# Altium integrated library TI Amplifiers and Linear Special Function Amplifier.IntLib: 708 symbols (part 46 of 47)
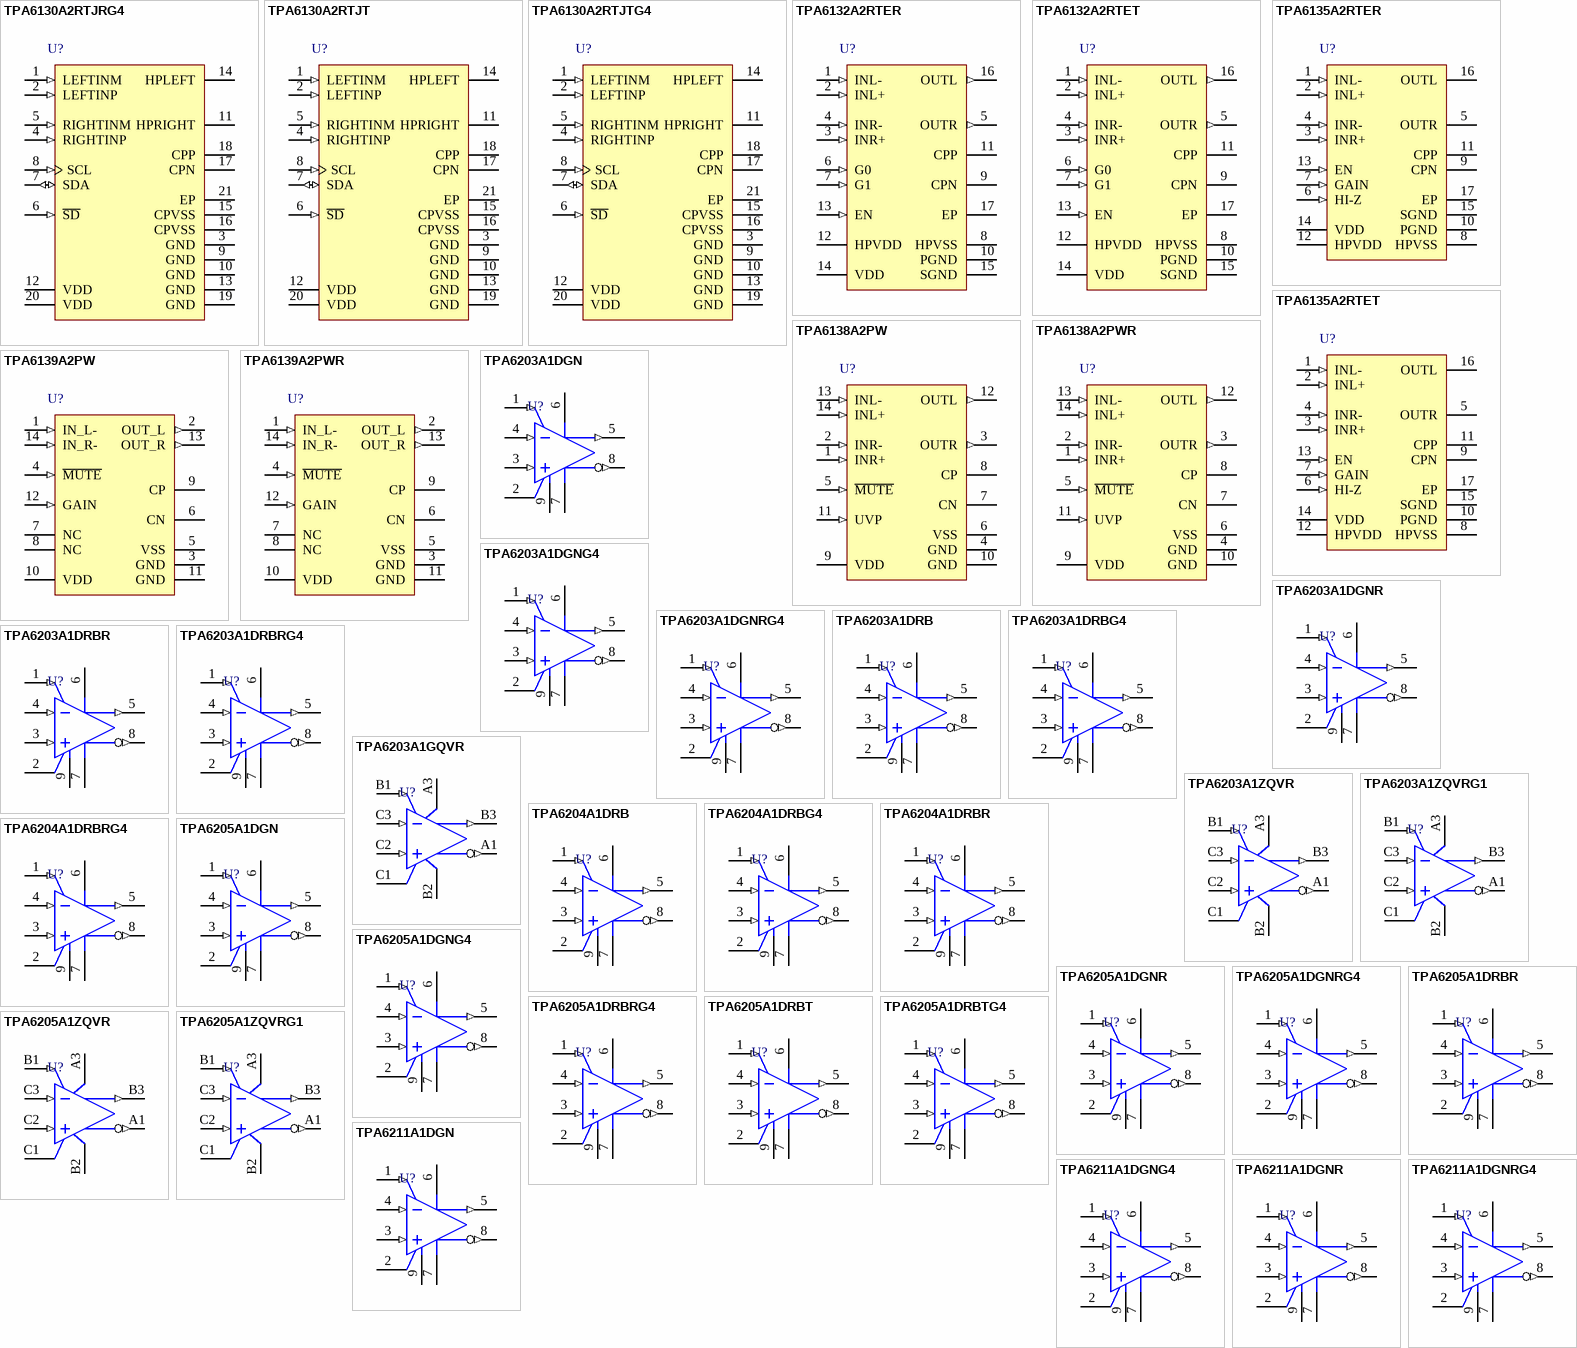
[diagram p84: symbols TPA6130A2RTJRG4 to TPA6211A1DGNRG4]

## TPA6203A1DRBG4
designator U?
1.25-W Mono, Fully Differential, Class-AB Audio Amplifier, -40 to 85 degC, 8-pin SON (DRB8), Green (RoHS & no Sb/Br); Manufacturer: Texas Instruments; PartNumber: TPA6203A1DRBG4; Output Power(W): 1.25; PSRR(dB): -90; SubFamily: Dynamic Speaker; Supply Max(Max)(Volt): 5.5; Supply Min(Min)(Volt): 2.5; DatasheetVersion: SLOS364F; PackageVersion: 4203482-2/K, 06/2012; PackageReference: DRB8-1750X1500TP; PackageDescription: 8-Pin Plastic Small Outline, Body 3 x 3 mm, Pitch 0.65 mm; Supplier 1: Digi-Key; Supplier Part Number 1: TPA6203A1DRBG4-ND; Supplier 2: Mouser; Supplier Part Number 2: 595-TPA6203A1DRBG4; Eco-Plan: Green (RoHS & no Sb/Br); Speaker Amp Type: Class-AB; Speaker Channels: Mono; Mounting Technology: Surface Mount; ComponentLink1Description: Manufacturer URL; ComponentLink1URL: http://www.ti.com/; ComponentLink2Description: Datasheet; ComponentLink2URL: http://www.ti.com/general/docs/lit/getliterature.tsp?genericPartNumber=TPA6203A1&fileType=pdf; ComponentLink3Description: Package Specification; ComponentLink3URL: http://www.ti.com/litv/pdf/mpds118h
footprint TI-DRB8-1750X1500TP_V (SON, 8-Leads, Body 3x3mm, Pitch 0.65mm, Thermal Pad 1.50 x 3.8mm)
pins: 1 ~{SHUTDOWN} (in) "Shutdown terminal (active low logic)", 2 BYPASS "Mid-supply voltage. Adding a bypass capacitor improves PSRR.", 3 IN+ (in) "Positive differential input", 4 IN- (in) "Negative differential input", 5 VO+ (out) "Positive BTL output", 6 VDD (power) "Supply voltage terminal", 7 GND (power) "High-current ground", 8 VO- (out) "Negative BTL output", 9 EP (power) "Connect to ground. Thermal pad must be soldered down in all applications to properly secure device on the PCB."

## TPA6203A1DRBR
designator U?
1.25-W Mono, Fully Differential, Class-AB Audio Amplifier, -40 to 85 degC, 8-pin SON (DRB8), Green (RoHS & no Sb/Br); Manufacturer: Texas Instruments; PartNumber: TPA6203A1DRBR; Output Power(W): 1.25; PSRR(dB): -90; SubFamily: Dynamic Speaker; Supply Max(Max)(Volt): 5.5; Supply Min(Min)(Volt): 2.5; DatasheetVersion: SLOS364F; PackageVersion: 4203482-2/K, 06/2012; PackageReference: DRB8-1750X1500TP; PackageDescription: 8-Pin Plastic Small Outline, Body 3 x 3 mm, Pitch 0.65 mm; Supplier 1: Digi-Key; Supplier Part Number 1: 296-19790-2-ND; Supplier 2: Digi-Key; Supplier Part Number 2: 296-19790-1-ND; Supplier 3: Digi-Key; Supplier Part Number 3: 296-19790-6-ND; Supplier 4: Newark; Supplier Part Number 4: 54K1507; Supplier 5: Mouser; Supplier Part Number 5: 595-TPA6203A1DRBR; Eco-Plan: Green (RoHS & no Sb/Br); Speaker Amp Type: Class-AB; Speaker Channels: Mono; Mounting Technology: Surface Mount; ComponentLink1Description: Manufacturer URL; ComponentLink1URL: http://www.ti.com/; ComponentLink2Description: Datasheet; ComponentLink2URL: http://www.ti.com/general/docs/lit/getliterature.tsp?genericPartNumber=TPA6203A1&fileType=pdf; ComponentLink3Description: Package Specification; ComponentLink3URL: http://www.ti.com/litv/pdf/mpds118h
footprint TI-DRB8-1750X1500TP_V (SON, 8-Leads, Body 3x3mm, Pitch 0.65mm, Thermal Pad 1.50 x 3.8mm)
pins: 1 ~{SHUTDOWN} (in) "Shutdown terminal (active low logic)", 2 BYPASS "Mid-supply voltage. Adding a bypass capacitor improves PSRR.", 3 IN+ (in) "Positive differential input", 4 IN- (in) "Negative differential input", 5 VO+ (out) "Positive BTL output", 6 VDD (power) "Supply voltage terminal", 7 GND (power) "High-current ground", 8 VO- (out) "Negative BTL output", 9 EP (power) "Connect to ground. Thermal pad must be soldered down in all applications to properly secure device on the PCB."

## TPA6203A1DRBRG4
designator U?
1.25-W Mono, Fully Differential, Class-AB Audio Amplifier, -40 to 85 degC, 8-pin SON (DRB8), Green (RoHS & no Sb/Br); Manufacturer: Texas Instruments; PartNumber: TPA6203A1DRBRG4; Output Power(W): 1.25; PSRR(dB): -90; SubFamily: Dynamic Speaker; Supply Max(Max)(Volt): 5.5; Supply Min(Min)(Volt): 2.5; DatasheetVersion: SLOS364F; PackageVersion: 4203482-2/K, 06/2012; PackageReference: DRB8-1750X1500TP; PackageDescription: 8-Pin Plastic Small Outline, Body 3 x 3 mm, Pitch 0.65 mm; Supplier 1: Digi-Key; Supplier Part Number 1: TPA6203A1DRBRG4-ND; Supplier 2: Mouser; Supplier Part Number 2: 595-TPA6203A1DRBRG4; Eco-Plan: Green (RoHS & no Sb/Br); Speaker Amp Type: Class-AB; Speaker Channels: Mono; Mounting Technology: Surface Mount; ComponentLink1Description: Manufacturer URL; ComponentLink1URL: http://www.ti.com/; ComponentLink2Description: Datasheet; ComponentLink2URL: http://www.ti.com/general/docs/lit/getliterature.tsp?genericPartNumber=TPA6203A1&fileType=pdf; ComponentLink3Description: Package Specification; ComponentLink3URL: http://www.ti.com/litv/pdf/mpds118h
footprint TI-DRB8-1750X1500TP_V (SON, 8-Leads, Body 3x3mm, Pitch 0.65mm, Thermal Pad 1.50 x 3.8mm)
pins: 1 ~{SHUTDOWN} (in) "Shutdown terminal (active low logic)", 2 BYPASS "Mid-supply voltage. Adding a bypass capacitor improves PSRR.", 3 IN+ (in) "Positive differential input", 4 IN- (in) "Negative differential input", 5 VO+ (out) "Positive BTL output", 6 VDD (power) "Supply voltage terminal", 7 GND (power) "High-current ground", 8 VO- (out) "Negative BTL output", 9 EP (power) "Connect to ground. Thermal pad must be soldered down in all applications to properly secure device on the PCB."

## TPA6203A1GQVR
designator U?
1.25-W Mono, Fully Differential, Class-AB Audio Amplifier, -40 to 85 degC, 8-pin BGA (GQV8); Manufacturer: Texas Instruments; PartNumber: TPA6203A1GQVR; Output Power(W): 1.25; PSRR(dB): -90; SubFamily: Dynamic Speaker; Supply Max(Max)(Volt): 5.5; Supply Min(Min)(Volt): 2.5; DatasheetVersion: SLOS364F; PackageVersion: 4201040/E, 01/2002; PackageReference: GQV8; PackageDescription: 8-Ball Plastic Ball Grid Array, Body 2 x 2 mm, Pitch 0.5 mm; Supplier 1: Digi-Key; Supplier Part Number 1: 296-12753-2-ND; Supplier 2: Digi-Key; Supplier Part Number 2: 296-12753-1-ND; Supplier 3: Mouser; Supplier Part Number 3: 595-TPA6203A1GQVR; Speaker Amp Type: Class-AB; Speaker Channels: Mono; Mounting Technology: Surface Mount; Code_JEDEC: MO-225; ComponentLink1Description: Manufacturer URL; ComponentLink1URL: http://www.ti.com/; ComponentLink2Description: Datasheet; ComponentLink2URL: http://www.ti.com/general/docs/lit/getliterature.tsp?genericPartNumber=TPA6203A1&fileType=pdf; ComponentLink3Description: Package Specification; ComponentLink3URL: http://www.ti.com/litv/pdf/mpbg144c
footprint TI-GQV8 (BGA, 8-Balls, Body 2x2mm, Pitch 0.5mm)
pins: A1 VO- (out) "Negative BTL output", A3 VDD (power) "Supply voltage terminal", B1 ~{SHUTDOWN} (in) "Shutdown terminal (active low logic)", B2 GND (power) "High-current ground", B3 VO+ (out) "Positive BTL output", C1 BYPASS "Mid-supply voltage. Adding a bypass capacitor improves PSRR.", C2 IN+ (in) "Positive differential input", C3 IN- (in) "Negative differential input"

## TPA6203A1ZQVR
designator U?
1.25-W Mono, Fully Differential, Class-AB Audio Amplifier, -40 to 85 degC, 8-pin BGA (ZQV8), Green (RoHS & no Sb/Br); Manufacturer: Texas Instruments; PartNumber: TPA6203A1ZQVR; Output Power(W): 1.25; PSRR(dB): -90; SubFamily: Dynamic Speaker; Supply Max(Max)(Volt): 5.5; Supply Min(Min)(Volt): 2.5; DatasheetVersion: SLOS364F; PackageVersion: 4205131/A, 05/2003; PackageReference: ZQV8; PackageDescription: 8-Ball Plastic Grid Array, Body 2 x 2 mm, Pitch 0.5 mm; Supplier 1: Digi-Key; Supplier Part Number 1: 296-17902-2-ND; Supplier 2: Digi-Key; Supplier Part Number 2: 296-17902-1-ND; Supplier 3: Digi-Key; Supplier Part Number 3: 296-17902-6-ND; Supplier 4: Mouser; Supplier Part Number 4: 595-TPA6203A1ZQVR; Eco-Plan: Green (RoHS & no Sb/Br); Speaker Amp Type: Class-AB; Speaker Channels: Mono; Mounting Technology: Surface Mount; Code_JEDEC: MO-225; ComponentLink1Description: Manufacturer URL; ComponentLink1URL: http://www.ti.com/; ComponentLink2Description: Datasheet; ComponentLink2URL: http://www.ti.com/general/docs/lit/getliterature.tsp?genericPartNumber=TPA6203A1&fileType=pdf; ComponentLink3Description: Package Specification; ComponentLink3URL: http://www.ti.com/litv/pdf/mpbg362
footprint TI-ZQV8 (BGA, 8-Balls, Body 2x2mm, Pitch 0.5mm)
pins: A1 VO- (out) "Negative BTL output", A3 VDD (power) "Supply voltage terminal", B1 ~{SHUTDOWN} (in) "Shutdown terminal (active low logic)", B2 GND (power) "High-current ground", B3 VO+ (out) "Positive BTL output", C1 BYPASS "Mid-supply voltage. Adding a bypass capacitor improves PSRR.", C2 IN+ (in) "Positive differential input", C3 IN- (in) "Negative differential input"

## TPA6203A1ZQVRG1
designator U?
1.25-W Mono, Fully Differential, Class-AB Audio Amplifier, -40 to 85 degC, 8-pin BGA (ZQV8), Green (RoHS & no Sb/Br); Manufacturer: Texas Instruments; PartNumber: TPA6203A1ZQVRG1; Output Power(W): 1.25; PSRR(dB): -90; SubFamily: Dynamic Speaker; Supply Max(Max)(Volt): 5.5; Supply Min(Min)(Volt): 2.5; DatasheetVersion: SLOS364F; PackageVersion: 4205131/A, 05/2003; PackageReference: ZQV8; PackageDescription: 8-Ball Plastic Grid Array, Body 2 x 2 mm, Pitch 0.5 mm; Supplier 1: Digi-Key; Supplier Part Number 1: TPA6203A1ZQVRG1-ND; Supplier 2: Mouser; Supplier Part Number 2: 595-TPA6203A1ZQVRG1; Eco-Plan: Green (RoHS & no Sb/Br); Speaker Amp Type: Class-AB; Speaker Channels: Mono; Mounting Technology: Surface Mount; Code_JEDEC: MO-225; ComponentLink1Description: Manufacturer URL; ComponentLink1URL: http://www.ti.com/; ComponentLink2Description: Datasheet; ComponentLink2URL: http://www.ti.com/general/docs/lit/getliterature.tsp?genericPartNumber=TPA6203A1&fileType=pdf; ComponentLink3Description: Package Specification; ComponentLink3URL: http://www.ti.com/litv/pdf/mpbg362
footprint TI-ZQV8 (BGA, 8-Balls, Body 2x2mm, Pitch 0.5mm)
pins: A1 VO- (out) "Negative BTL output", A3 VDD (power) "Supply voltage terminal", B1 ~{SHUTDOWN} (in) "Shutdown terminal (active low logic)", B2 GND (power) "High-current ground", B3 VO+ (out) "Positive BTL output", C1 BYPASS "Mid-supply voltage. Adding a bypass capacitor improves PSRR.", C2 IN+ (in) "Positive differential input", C3 IN- (in) "Negative differential input"

## TPA6204A1DRB
designator U?
1.7-W Mono, Fully Differential, Class-AB Audio Amplifier, -40 to 85 degC, 8-pin SON (DRB8), Green (RoHS & no Sb/Br); Manufacturer: Texas Instruments; PartNumber: TPA6204A1DRB; Output Power(W): 1.7; PSRR(dB): -80; SubFamily: Dynamic Speaker; Supply Max(Max)(Volt): 5.5; Supply Min(Min)(Volt): 2.5; DatasheetVersion: SLOS429B; PackageVersion: 4203482-2/K, 06/2012; PackageReference: DRB8-1750X1500TP; PackageDescription: 8-Pin Plastic Small Outline, Body 3 x 3 mm, Pitch 0.65 mm; Supplier 1: Digi-Key; Supplier Part Number 1: 296-34562-5-ND; Supplier 2: Newark; Supplier Part Number 2: 10J9731; Supplier 3: Mouser; Supplier Part Number 3: 595-TPA6204A1DRB; Eco-Plan: Green (RoHS & no Sb/Br); Speaker Amp Type: Class-AB; Speaker Channels: Mono; Mounting Technology: Surface Mount; ComponentLink1Description: Manufacturer URL; ComponentLink1URL: http://www.ti.com/; ComponentLink2Description: Datasheet; ComponentLink2URL: http://www.ti.com/general/docs/lit/getliterature.tsp?genericPartNumber=TPA6204A1&fileType=pdf; ComponentLink3Description: Package Specification; ComponentLink3URL: http://www.ti.com/litv/pdf/mpds118h
footprint TI-DRB8-1750X1500TP_V (SON, 8-Leads, Body 3x3mm, Pitch 0.65mm, Thermal Pad 1.50 x 3.8mm)
pins: 1 ~{SHUTDOWN} (in) "Shutdown terminal (active low logic)", 2 BYPASS "Mid-supply voltage. Adding a bypass capacitor improves PSRR.", 3 IN+ (in) "Positive differential input", 4 IN- (in) "Negative differential input", 5 VO+ (out) "Positive BTL output", 6 VDD (power) "Supply voltage terminal", 7 GND (power) "High-current ground", 8 VO- (out) "Negative BTL output", 9 EP (power) "Connect to ground. Thermal pad must be soldered down in all applications to properly secure device on the PCB."

## TPA6204A1DRBG4
designator U?
1.7-W Mono, Fully Differential, Class-AB Audio Amplifier, -40 to 85 degC, 8-pin SON (DRB8), Green (RoHS & no Sb/Br); Manufacturer: Texas Instruments; PartNumber: TPA6204A1DRBG4; Output Power(W): 1.7; PSRR(dB): -80; SubFamily: Dynamic Speaker; Supply Max(Max)(Volt): 5.5; Supply Min(Min)(Volt): 2.5; DatasheetVersion: SLOS429B; PackageVersion: 4203482-2/K, 06/2012; PackageReference: DRB8-1750X1500TP; PackageDescription: 8-Pin Plastic Small Outline, Body 3 x 3 mm, Pitch 0.65 mm; Supplier 1: Digi-Key; Supplier Part Number 1: TPA6204A1DRBG4-ND; Supplier 2: Newark; Supplier Part Number 2: 33K7498; Supplier 3: Mouser; Supplier Part Number 3: 595-TPA6204A1DRBG4; Eco-Plan: Green (RoHS & no Sb/Br); Speaker Amp Type: Class-AB; Speaker Channels: Mono; Mounting Technology: Surface Mount; ComponentLink1Description: Manufacturer URL; ComponentLink1URL: http://www.ti.com/; ComponentLink2Description: Datasheet; ComponentLink2URL: http://www.ti.com/general/docs/lit/getliterature.tsp?genericPartNumber=TPA6204A1&fileType=pdf; ComponentLink3Description: Package Specification; ComponentLink3URL: http://www.ti.com/litv/pdf/mpds118h
footprint TI-DRB8-1750X1500TP_V (SON, 8-Leads, Body 3x3mm, Pitch 0.65mm, Thermal Pad 1.50 x 3.8mm)
pins: 1 ~{SHUTDOWN} (in) "Shutdown terminal (active low logic)", 2 BYPASS "Mid-supply voltage. Adding a bypass capacitor improves PSRR.", 3 IN+ (in) "Positive differential input", 4 IN- (in) "Negative differential input", 5 VO+ (out) "Positive BTL output", 6 VDD (power) "Supply voltage terminal", 7 GND (power) "High-current ground", 8 VO- (out) "Negative BTL output", 9 EP (power) "Connect to ground. Thermal pad must be soldered down in all applications to properly secure device on the PCB."

## TPA6204A1DRBR
designator U?
1.7-W Mono, Fully Differential, Class-AB Audio Amplifier, -40 to 85 degC, 8-pin SON (DRB8), Green (RoHS & no Sb/Br); Manufacturer: Texas Instruments; PartNumber: TPA6204A1DRBR; Output Power(W): 1.7; PSRR(dB): -80; SubFamily: Dynamic Speaker; Supply Max(Max)(Volt): 5.5; Supply Min(Min)(Volt): 2.5; DatasheetVersion: SLOS429B; PackageVersion: 4203482-2/K, 06/2012; PackageReference: DRB8-1750X1500TP; PackageDescription: 8-Pin Plastic Small Outline, Body 3 x 3 mm, Pitch 0.65 mm; Supplier 1: Digi-Key; Supplier Part Number 1: 296-17059-2-ND; Supplier 2: Digi-Key; Supplier Part Number 2: 296-17059-1-ND; Supplier 3: Digi-Key; Supplier Part Number 3: 296-17059-6-ND; Supplier 4: Newark; Supplier Part Number 4: 10J9732; Supplier 5: Mouser; Supplier Part Number 5: 595-TPA6204A1DRBR; Eco-Plan: Green (RoHS & no Sb/Br); Speaker Amp Type: Class-AB; Speaker Channels: Mono; Mounting Technology: Surface Mount; ComponentLink1Description: Manufacturer URL; ComponentLink1URL: http://www.ti.com/; ComponentLink2Description: Datasheet; ComponentLink2URL: http://www.ti.com/general/docs/lit/getliterature.tsp?genericPartNumber=TPA6204A1&fileType=pdf; ComponentLink3Description: Package Specification; ComponentLink3URL: http://www.ti.com/litv/pdf/mpds118h
footprint TI-DRB8-1750X1500TP_V (SON, 8-Leads, Body 3x3mm, Pitch 0.65mm, Thermal Pad 1.50 x 3.8mm)
pins: 1 ~{SHUTDOWN} (in) "Shutdown terminal (active low logic)", 2 BYPASS "Mid-supply voltage. Adding a bypass capacitor improves PSRR.", 3 IN+ (in) "Positive differential input", 4 IN- (in) "Negative differential input", 5 VO+ (out) "Positive BTL output", 6 VDD (power) "Supply voltage terminal", 7 GND (power) "High-current ground", 8 VO- (out) "Negative BTL output", 9 EP (power) "Connect to ground. Thermal pad must be soldered down in all applications to properly secure device on the PCB."

## TPA6204A1DRBRG4
designator U?
1.7-W Mono, Fully Differential, Class-AB Audio Amplifier, -40 to 85 degC, 8-pin SON (DRB8), Green (RoHS & no Sb/Br); Manufacturer: Texas Instruments; PartNumber: TPA6204A1DRBRG4; Output Power(W): 1.7; PSRR(dB): -80; SubFamily: Dynamic Speaker; Supply Max(Max)(Volt): 5.5; Supply Min(Min)(Volt): 2.5; DatasheetVersion: SLOS429B; PackageVersion: 4203482-2/K, 06/2012; PackageReference: DRB8-1750X1500TP; PackageDescription: 8-Pin Plastic Small Outline, Body 3 x 3 mm, Pitch 0.65 mm; Supplier 1: Digi-Key; Supplier Part Number 1: TPA6204A1DRBRG4-ND; Supplier 2: Newark; Supplier Part Number 2: 24K5791; Supplier 3: Mouser; Supplier Part Number 3: 595-TPA6204A1DRBRG4; Eco-Plan: Green (RoHS & no Sb/Br); Speaker Amp Type: Class-AB; Speaker Channels: Mono; Mounting Technology: Surface Mount; ComponentLink1Description: Manufacturer URL; ComponentLink1URL: http://www.ti.com/; ComponentLink2Description: Datasheet; ComponentLink2URL: http://www.ti.com/general/docs/lit/getliterature.tsp?genericPartNumber=TPA6204A1&fileType=pdf; ComponentLink3Description: Package Specification; ComponentLink3URL: http://www.ti.com/litv/pdf/mpds118h
footprint TI-DRB8-1750X1500TP_V (SON, 8-Leads, Body 3x3mm, Pitch 0.65mm, Thermal Pad 1.50 x 3.8mm)
pins: 1 ~{SHUTDOWN} (in) "Shutdown terminal (active low logic)", 2 BYPASS "Mid-supply voltage. Adding a bypass capacitor improves PSRR.", 3 IN+ (in) "Positive differential input", 4 IN- (in) "Negative differential input", 5 VO+ (out) "Positive BTL output", 6 VDD (power) "Supply voltage terminal", 7 GND (power) "High-current ground", 8 VO- (out) "Negative BTL output", 9 EP (power) "Connect to ground. Thermal pad must be soldered down in all applications to properly secure device on the PCB."

## TPA6205A1DGN
designator U?
1.25-W Mono, Fully Differential, Class-AB Audio Amplifier with 1.8 V Compatible Shutdown Voltage, -40 to 85 degC, 8-pin SOP (DGN8), Green (RoHS & no Sb/Br); Manufacturer: Texas Instruments; PartNumber: TPA6205A1DGN; Output Power(W): 1.25; PSRR(dB): -90; SubFamily: Dynamic Speaker; Supply Max(Max)(Volt): 5.5; Supply Min(Min)(Volt): 2.5; DatasheetVersion: SLOS490B; PackageVersion: 4073271/F, 05/2011; PackageReference: DGN8-1760X1425TP; PackageDescription: 8-Pin Plastic Small Outline, Body 3 x 3 mm, Pitch 0.65 mm; Supplier 1: Digi-Key; Supplier Part Number 1: 296-34563-5-ND; Supplier 2: Farnell; Supplier Part Number 2: 1697151; Supplier 3: Newark; Supplier Part Number 3: 20M5853; Supplier 4: Mouser; Supplier Part Number 4: 595-TPA6205A1DGN; Eco-Plan: Green (RoHS & no Sb/Br); Speaker Amp Type: Class-AB; Speaker Channels: Mono; Mounting Technology: Surface Mount; Code_JEDEC: MO-187; ComponentLink1Description: Manufacturer URL; ComponentLink1URL: http://www.ti.com/; ComponentLink2Description: Datasheet; ComponentLink2URL: http://www.ti.com/general/docs/lit/getliterature.tsp?genericPartNumber=TPA6205A1&fileType=pdf; ComponentLink3Description: Package Specification; ComponentLink3URL: http://www.ti.com/litv/pdf/mpds046e
footprint TI-DGN8-1760X1425TP_N (SOP, 8-Leads, Body 3.1x3.1mm, Pitch 0.65mm, Thermal Pad 1.89x1.57mm, IPC Medium Density)
footprint TI-DGN8-1760X1425TP_L (SOP, 8-Leads, Body 3.1x3.1mm, Pitch 0.65mm, Thermal Pad 1.89x1.57mm, IPC High Density)
footprint TI-DGN8-1760X1425TP_M (SOP, 8-Leads, Body 3.1x3.1mm, Pitch 0.65mm, Thermal Pad 1.89x1.57mm, IPC Low Density)
pins: 1 ~{SHUTDOWN} (in) "Shutdown terminal (active low logic)", 2 BYPASS "Mid-supply voltage. Adding a bypass capacitor improves PSRR.", 3 IN+ (in) "Positive differential input", 4 IN- (in) "Negative differential input", 5 VO+ (out) "Positive BTL output", 6 VDD (power) "Supply voltage terminal", 7 GND (power) "High-current ground", 8 VO- (out) "Negative BTL output", 9 EP (power) "Connect to ground. Thermal pad must be soldered down in all applications to properly secure device on the PCB."

## TPA6205A1DGNG4
designator U?
1.25-W Mono, Fully Differential, Class-AB Audio Amplifier with 1.8 V Compatible Shutdown Voltage, -40 to 85 degC, 8-pin SOP (DGN8), Green (RoHS & no Sb/Br); Manufacturer: Texas Instruments; PartNumber: TPA6205A1DGNG4; Output Power(W): 1.25; PSRR(dB): -90; SubFamily: Dynamic Speaker; Supply Max(Max)(Volt): 5.5; Supply Min(Min)(Volt): 2.5; DatasheetVersion: SLOS490B; PackageVersion: 4073271/F, 05/2011; PackageReference: DGN8-1760X1425TP; PackageDescription: 8-Pin Plastic Small Outline, Body 3 x 3 mm, Pitch 0.65 mm; Supplier 1: Digi-Key; Supplier Part Number 1: TPA6205A1DGNG4-ND; Supplier 2: Mouser; Supplier Part Number 2: 595-TPA6205A1DGNG4; Eco-Plan: Green (RoHS & no Sb/Br); Speaker Amp Type: Class-AB; Speaker Channels: Mono; Mounting Technology: Surface Mount; Code_JEDEC: MO-187; ComponentLink1Description: Manufacturer URL; ComponentLink1URL: http://www.ti.com/; ComponentLink2Description: Datasheet; ComponentLink2URL: http://www.ti.com/general/docs/lit/getliterature.tsp?genericPartNumber=TPA6205A1&fileType=pdf; ComponentLink3Description: Package Specification; ComponentLink3URL: http://www.ti.com/litv/pdf/mpds046e
footprint TI-DGN8-1760X1425TP_N (SOP, 8-Leads, Body 3.1x3.1mm, Pitch 0.65mm, Thermal Pad 1.89x1.57mm, IPC Medium Density)
footprint TI-DGN8-1760X1425TP_L (SOP, 8-Leads, Body 3.1x3.1mm, Pitch 0.65mm, Thermal Pad 1.89x1.57mm, IPC High Density)
footprint TI-DGN8-1760X1425TP_M (SOP, 8-Leads, Body 3.1x3.1mm, Pitch 0.65mm, Thermal Pad 1.89x1.57mm, IPC Low Density)
pins: 1 ~{SHUTDOWN} (in) "Shutdown terminal (active low logic)", 2 BYPASS "Mid-supply voltage. Adding a bypass capacitor improves PSRR.", 3 IN+ (in) "Positive differential input", 4 IN- (in) "Negative differential input", 5 VO+ (out) "Positive BTL output", 6 VDD (power) "Supply voltage terminal", 7 GND (power) "High-current ground", 8 VO- (out) "Negative BTL output", 9 EP (power) "Connect to ground. Thermal pad must be soldered down in all applications to properly secure device on the PCB."

## TPA6205A1DGNR
designator U?
1.25-W Mono, Fully Differential, Class-AB Audio Amplifier with 1.8 V Compatible Shutdown Voltage, -40 to 85 degC, 8-pin SOP (DGN8), Green (RoHS & no Sb/Br); Manufacturer: Texas Instruments; PartNumber: TPA6205A1DGNR; Output Power(W): 1.25; PSRR(dB): -90; SubFamily: Dynamic Speaker; Supply Max(Max)(Volt): 5.5; Supply Min(Min)(Volt): 2.5; DatasheetVersion: SLOS490B; PackageVersion: 4073271/F, 05/2011; PackageReference: DGN8-1760X1425TP; PackageDescription: 8-Pin Plastic Small Outline, Body 3 x 3 mm, Pitch 0.65 mm; Supplier 1: Digi-Key; Supplier Part Number 1: 296-21262-2-ND; Supplier 2: Digi-Key; Supplier Part Number 2: 296-21262-1-ND; Supplier 3: Digi-Key; Supplier Part Number 3: 296-21262-6-ND; Supplier 4: Newark; Supplier Part Number 4: 20M5855; Supplier 5: Mouser; Supplier Part Number 5: 595-TPA6205A1DGNR; Eco-Plan: Green (RoHS & no Sb/Br); Speaker Amp Type: Class-AB; Speaker Channels: Mono; Mounting Technology: Surface Mount; Code_JEDEC: MO-187; ComponentLink1Description: Manufacturer URL; ComponentLink1URL: http://www.ti.com/; ComponentLink2Description: Datasheet; ComponentLink2URL: http://www.ti.com/general/docs/lit/getliterature.tsp?genericPartNumber=TPA6205A1&fileType=pdf; ComponentLink3Description: Package Specification; ComponentLink3URL: http://www.ti.com/litv/pdf/mpds046e
footprint TI-DGN8-1760X1425TP_N (SOP, 8-Leads, Body 3.1x3.1mm, Pitch 0.65mm, Thermal Pad 1.89x1.57mm, IPC Medium Density)
footprint TI-DGN8-1760X1425TP_L (SOP, 8-Leads, Body 3.1x3.1mm, Pitch 0.65mm, Thermal Pad 1.89x1.57mm, IPC High Density)
footprint TI-DGN8-1760X1425TP_M (SOP, 8-Leads, Body 3.1x3.1mm, Pitch 0.65mm, Thermal Pad 1.89x1.57mm, IPC Low Density)
pins: 1 ~{SHUTDOWN} (in) "Shutdown terminal (active low logic)", 2 BYPASS "Mid-supply voltage. Adding a bypass capacitor improves PSRR.", 3 IN+ (in) "Positive differential input", 4 IN- (in) "Negative differential input", 5 VO+ (out) "Positive BTL output", 6 VDD (power) "Supply voltage terminal", 7 GND (power) "High-current ground", 8 VO- (out) "Negative BTL output", 9 EP (power) "Connect to ground. Thermal pad must be soldered down in all applications to properly secure device on the PCB."

## TPA6205A1DGNRG4
designator U?
1.25-W Mono, Fully Differential, Class-AB Audio Amplifier with 1.8 V Compatible Shutdown Voltage, -40 to 85 degC, 8-pin SOP (DGN8), Green (RoHS & no Sb/Br); Manufacturer: Texas Instruments; PartNumber: TPA6205A1DGNRG4; Output Power(W): 1.25; PSRR(dB): -90; SubFamily: Dynamic Speaker; Supply Max(Max)(Volt): 5.5; Supply Min(Min)(Volt): 2.5; DatasheetVersion: SLOS490B; PackageVersion: 4073271/F, 05/2011; PackageReference: DGN8-1760X1425TP; PackageDescription: 8-Pin Plastic Small Outline, Body 3 x 3 mm, Pitch 0.65 mm; Supplier 1: Digi-Key; Supplier Part Number 1: TPA6205A1DGNRG4-ND; Supplier 2: Mouser; Supplier Part Number 2: 595-TPA6205A1DGNRG4; Eco-Plan: Green (RoHS & no Sb/Br); Speaker Amp Type: Class-AB; Speaker Channels: Mono; Mounting Technology: Surface Mount; Code_JEDEC: MO-187; ComponentLink1Description: Manufacturer URL; ComponentLink1URL: http://www.ti.com/; ComponentLink2Description: Datasheet; ComponentLink2URL: http://www.ti.com/general/docs/lit/getliterature.tsp?genericPartNumber=TPA6205A1&fileType=pdf; ComponentLink3Description: Package Specification; ComponentLink3URL: http://www.ti.com/litv/pdf/mpds046e
footprint TI-DGN8-1760X1425TP_N (SOP, 8-Leads, Body 3.1x3.1mm, Pitch 0.65mm, Thermal Pad 1.89x1.57mm, IPC Medium Density)
footprint TI-DGN8-1760X1425TP_L (SOP, 8-Leads, Body 3.1x3.1mm, Pitch 0.65mm, Thermal Pad 1.89x1.57mm, IPC High Density)
footprint TI-DGN8-1760X1425TP_M (SOP, 8-Leads, Body 3.1x3.1mm, Pitch 0.65mm, Thermal Pad 1.89x1.57mm, IPC Low Density)
pins: 1 ~{SHUTDOWN} (in) "Shutdown terminal (active low logic)", 2 BYPASS "Mid-supply voltage. Adding a bypass capacitor improves PSRR.", 3 IN+ (in) "Positive differential input", 4 IN- (in) "Negative differential input", 5 VO+ (out) "Positive BTL output", 6 VDD (power) "Supply voltage terminal", 7 GND (power) "High-current ground", 8 VO- (out) "Negative BTL output", 9 EP (power) "Connect to ground. Thermal pad must be soldered down in all applications to properly secure device on the PCB."

## TPA6205A1DRBR
designator U?
1.25-W Mono, Fully Differential, Class-AB Audio Amplifier with 1.8 V Compatible Shutdown Voltage, -40 to 85 degC, 8-pin SON (DRB8), Green (RoHS & no Sb/Br); Manufacturer: Texas Instruments; PartNumber: TPA6205A1DRBR; Output Power(W): 1.25; PSRR(dB): -90; SubFamily: Dynamic Speaker; Supply Max(Max)(Volt): 5.5; Supply Min(Min)(Volt): 2.5; DatasheetVersion: SLOS490B; PackageVersion: 4203482-2/K, 06/2012; PackageReference: DRB8-1750X1500TP; PackageDescription: 8-Pin Plastic Small Outline, Body 3 x 3 mm, Pitch 0.65 mm; Supplier 1: Digi-Key; Supplier Part Number 1: 296-31977-2-ND; Supplier 2: Digi-Key; Supplier Part Number 2: 296-31977-1-ND; Supplier 3: Digi-Key; Supplier Part Number 3: 296-31977-6-ND; Supplier 4: Newark; Supplier Part Number 4: 18M7781; Supplier 5: Mouser; Supplier Part Number 5: 595-TPA6205A1DRBR; Eco-Plan: Green (RoHS & no Sb/Br); Speaker Amp Type: Class-AB; Speaker Channels: Mono; Mounting Technology: Surface Mount; ComponentLink1Description: Manufacturer URL; ComponentLink1URL: http://www.ti.com/; ComponentLink2Description: Datasheet; ComponentLink2URL: http://www.ti.com/general/docs/lit/getliterature.tsp?genericPartNumber=TPA6205A1&fileType=pdf; ComponentLink3Description: Package Specification; ComponentLink3URL: http://www.ti.com/litv/pdf/mpds118h
footprint TI-DRB8-1750X1500TP_V (SON, 8-Leads, Body 3x3mm, Pitch 0.65mm, Thermal Pad 1.50 x 3.8mm)
pins: 1 ~{SHUTDOWN} (in) "Shutdown terminal (active low logic)", 2 BYPASS "Mid-supply voltage. Adding a bypass capacitor improves PSRR.", 3 IN+ (in) "Positive differential input", 4 IN- (in) "Negative differential input", 5 VO+ (out) "Positive BTL output", 6 VDD (power) "Supply voltage terminal", 7 GND (power) "High-current ground", 8 VO- (out) "Negative BTL output", 9 EP (power) "Connect to ground. Thermal pad must be soldered down in all applications to properly secure device on the PCB."

## TPA6205A1DRBRG4
designator U?
1.25-W Mono, Fully Differential, Class-AB Audio Amplifier with 1.8 V Compatible Shutdown Voltage, -40 to 85 degC, 8-pin SON (DRB8), Green (RoHS & no Sb/Br); Manufacturer: Texas Instruments; PartNumber: TPA6205A1DRBRG4; Output Power(W): 1.25; PSRR(dB): -90; SubFamily: Dynamic Speaker; Supply Max(Max)(Volt): 5.5; Supply Min(Min)(Volt): 2.5; DatasheetVersion: SLOS490B; PackageVersion: 4203482-2/K, 06/2012; PackageReference: DRB8-1750X1500TP; PackageDescription: 8-Pin Plastic Small Outline, Body 3 x 3 mm, Pitch 0.65 mm; Supplier 1: Digi-Key; Supplier Part Number 1: TPA6205A1DRBRG4-ND; Supplier 2: Mouser; Supplier Part Number 2: 595-TPA6205A1DRBRG4; Eco-Plan: Green (RoHS & no Sb/Br); Speaker Amp Type: Class-AB; Speaker Channels: Mono; Mounting Technology: Surface Mount; ComponentLink1Description: Manufacturer URL; ComponentLink1URL: http://www.ti.com/; ComponentLink2Description: Datasheet; ComponentLink2URL: http://www.ti.com/general/docs/lit/getliterature.tsp?genericPartNumber=TPA6205A1&fileType=pdf; ComponentLink3Description: Package Specification; ComponentLink3URL: http://www.ti.com/litv/pdf/mpds118h
footprint TI-DRB8-1750X1500TP_V (SON, 8-Leads, Body 3x3mm, Pitch 0.65mm, Thermal Pad 1.50 x 3.8mm)
pins: 1 ~{SHUTDOWN} (in) "Shutdown terminal (active low logic)", 2 BYPASS "Mid-supply voltage. Adding a bypass capacitor improves PSRR.", 3 IN+ (in) "Positive differential input", 4 IN- (in) "Negative differential input", 5 VO+ (out) "Positive BTL output", 6 VDD (power) "Supply voltage terminal", 7 GND (power) "High-current ground", 8 VO- (out) "Negative BTL output", 9 EP (power) "Connect to ground. Thermal pad must be soldered down in all applications to properly secure device on the PCB."

## TPA6205A1DRBT
designator U?
1.25-W Mono, Fully Differential, Class-AB Audio Amplifier with 1.8 V Compatible Shutdown Voltage, -40 to 85 degC, 8-pin SON (DRB8), Green (RoHS & no Sb/Br); Manufacturer: Texas Instruments; PartNumber: TPA6205A1DRBT; Output Power(W): 1.25; PSRR(dB): -90; SubFamily: Dynamic Speaker; Supply Max(Max)(Volt): 5.5; Supply Min(Min)(Volt): 2.5; DatasheetVersion: SLOS490B; PackageVersion: 4203482-2/K, 06/2012; PackageReference: DRB8-1750X1500TP; PackageDescription: 8-Pin Plastic Small Outline, Body 3 x 3 mm, Pitch 0.65 mm; Supplier 1: Digi-Key; Supplier Part Number 1: 296-20784-2-ND; Supplier 2: Digi-Key; Supplier Part Number 2: 296-20784-1-ND; Supplier 3: Digi-Key; Supplier Part Number 3: 296-20784-6-ND; Supplier 4: Mouser; Supplier Part Number 4: 595-TPA6205A1DRBT; Eco-Plan: Green (RoHS & no Sb/Br); Speaker Amp Type: Class-AB; Speaker Channels: Mono; Mounting Technology: Surface Mount; ComponentLink1Description: Manufacturer URL; ComponentLink1URL: http://www.ti.com/; ComponentLink2Description: Datasheet; ComponentLink2URL: http://www.ti.com/general/docs/lit/getliterature.tsp?genericPartNumber=TPA6205A1&fileType=pdf; ComponentLink3Description: Package Specification; ComponentLink3URL: http://www.ti.com/litv/pdf/mpds118h
footprint TI-DRB8-1750X1500TP_V (SON, 8-Leads, Body 3x3mm, Pitch 0.65mm, Thermal Pad 1.50 x 3.8mm)
pins: 1 ~{SHUTDOWN} (in) "Shutdown terminal (active low logic)", 2 BYPASS "Mid-supply voltage. Adding a bypass capacitor improves PSRR.", 3 IN+ (in) "Positive differential input", 4 IN- (in) "Negative differential input", 5 VO+ (out) "Positive BTL output", 6 VDD (power) "Supply voltage terminal", 7 GND (power) "High-current ground", 8 VO- (out) "Negative BTL output", 9 EP (power) "Connect to ground. Thermal pad must be soldered down in all applications to properly secure device on the PCB."

## TPA6205A1DRBTG4
designator U?
1.25-W Mono, Fully Differential, Class-AB Audio Amplifier with 1.8 V Compatible Shutdown Voltage, -40 to 85 degC, 8-pin SON (DRB8), Green (RoHS & no Sb/Br); Manufacturer: Texas Instruments; PartNumber: TPA6205A1DRBTG4; Output Power(W): 1.25; PSRR(dB): -90; SubFamily: Dynamic Speaker; Supply Max(Max)(Volt): 5.5; Supply Min(Min)(Volt): 2.5; DatasheetVersion: SLOS490B; PackageVersion: 4203482-2/K, 06/2012; PackageReference: DRB8-1750X1500TP; PackageDescription: 8-Pin Plastic Small Outline, Body 3 x 3 mm, Pitch 0.65 mm; Supplier 1: Digi-Key; Supplier Part Number 1: TPA6205A1DRBTG4-ND; Supplier 2: Mouser; Supplier Part Number 2: 595-TPA6205A1DRBTG4; Eco-Plan: Green (RoHS & no Sb/Br); Speaker Amp Type: Class-AB; Speaker Channels: Mono; Mounting Technology: Surface Mount; ComponentLink1Description: Manufacturer URL; ComponentLink1URL: http://www.ti.com/; ComponentLink2Description: Datasheet; ComponentLink2URL: http://www.ti.com/general/docs/lit/getliterature.tsp?genericPartNumber=TPA6205A1&fileType=pdf; ComponentLink3Description: Package Specification; ComponentLink3URL: http://www.ti.com/litv/pdf/mpds118h
footprint TI-DRB8-1750X1500TP_V (SON, 8-Leads, Body 3x3mm, Pitch 0.65mm, Thermal Pad 1.50 x 3.8mm)
pins: 1 ~{SHUTDOWN} (in) "Shutdown terminal (active low logic)", 2 BYPASS "Mid-supply voltage. Adding a bypass capacitor improves PSRR.", 3 IN+ (in) "Positive differential input", 4 IN- (in) "Negative differential input", 5 VO+ (out) "Positive BTL output", 6 VDD (power) "Supply voltage terminal", 7 GND (power) "High-current ground", 8 VO- (out) "Negative BTL output", 9 EP (power) "Connect to ground. Thermal pad must be soldered down in all applications to properly secure device on the PCB."

## TPA6205A1ZQVR
designator U?
1.25-W Mono, Fully Differential, Class-AB Audio Amplifier with 1.8 V Compatible Shutdown Voltage, -40 to 85 degC, 8-pin BGA (ZQV8), Green (RoHS & no Sb/Br); Manufacturer: Texas Instruments; PartNumber: TPA6205A1ZQVR; Output Power(W): 1.25; PSRR(dB): -90; SubFamily: Dynamic Speaker; Supply Max(Max)(Volt): 5.5; Supply Min(Min)(Volt): 2.5; DatasheetVersion: SLOS490B; PackageVersion: 4205131/A, 05/2003; PackageReference: ZQV8; PackageDescription: 8-Ball Plastic Grid Array, Body 2 x 2 mm, Pitch 0.5 mm; Supplier 1: Digi-Key; Supplier Part Number 1: 296-21425-2-ND; Supplier 2: Digi-Key; Supplier Part Number 2: 296-21425-1-ND; Supplier 3: Newark; Supplier Part Number 3: 27M1072; Supplier 4: Mouser; Supplier Part Number 4: 595-TPA6205A1ZQVR; Eco-Plan: Green (RoHS & no Sb/Br); Speaker Amp Type: Class-AB; Speaker Channels: Mono; Mounting Technology: Surface Mount; Code_JEDEC: MO-225; ComponentLink1Description: Manufacturer URL; ComponentLink1URL: http://www.ti.com/; ComponentLink2Description: Datasheet; ComponentLink2URL: http://www.ti.com/general/docs/lit/getliterature.tsp?genericPartNumber=TPA6205A1&fileType=pdf; ComponentLink3Description: Package Specification; ComponentLink3URL: http://www.ti.com/litv/pdf/mpbg362
footprint TI-ZQV8 (BGA, 8-Balls, Body 2x2mm, Pitch 0.5mm)
pins: A1 VO- (out) "Negative BTL output", A3 VDD (power) "Supply voltage terminal", B1 ~{SHUTDOWN} (in) "Shutdown terminal (active low logic)", B2 GND (power) "High-current ground", B3 VO+ (out) "Positive BTL output", C1 BYPASS "Mid-supply voltage. Adding a bypass capacitor improves PSRR.", C2 IN+ (in) "Positive differential input", C3 IN- (in) "Negative differential input"

## TPA6205A1ZQVRG1
designator U?
1.25-W Mono, Fully Differential, Class-AB Audio Amplifier with 1.8 V Compatible Shutdown Voltage, -40 to 85 degC, 8-pin BGA (ZQV8), Green (RoHS & no Sb/Br); Manufacturer: Texas Instruments; PartNumber: TPA6205A1ZQVRG1; Output Power(W): 1.25; PSRR(dB): -90; SubFamily: Dynamic Speaker; Supply Max(Max)(Volt): 5.5; Supply Min(Min)(Volt): 2.5; DatasheetVersion: SLOS490B; PackageVersion: 4205131/A, 05/2003; PackageReference: ZQV8; PackageDescription: 8-Ball Plastic Grid Array, Body 2 x 2 mm, Pitch 0.5 mm; Supplier 1: Digi-Key; Supplier Part Number 1: TPA6205A1ZQVRG1-ND; Supplier 2: Mouser; Supplier Part Number 2: 595-TPA6205A1ZQVRG1; Eco-Plan: Green (RoHS & no Sb/Br); Speaker Amp Type: Class-AB; Speaker Channels: Mono; Mounting Technology: Surface Mount; Code_JEDEC: MO-225; ComponentLink1Description: Manufacturer URL; ComponentLink1URL: http://www.ti.com/; ComponentLink2Description: Datasheet; ComponentLink2URL: http://www.ti.com/general/docs/lit/getliterature.tsp?genericPartNumber=TPA6205A1&fileType=pdf; ComponentLink3Description: Package Specification; ComponentLink3URL: http://www.ti.com/litv/pdf/mpbg362
footprint TI-ZQV8 (BGA, 8-Balls, Body 2x2mm, Pitch 0.5mm)
pins: A1 VO- (out) "Negative BTL output", A3 VDD (power) "Supply voltage terminal", B1 ~{SHUTDOWN} (in) "Shutdown terminal (active low logic)", B2 GND (power) "High-current ground", B3 VO+ (out) "Positive BTL output", C1 BYPASS "Mid-supply voltage. Adding a bypass capacitor improves PSRR.", C2 IN+ (in) "Positive differential input", C3 IN- (in) "Negative differential input"

## TPA6211A1DGN
designator U?
3.1-W Mono, Fully Differential, Class-AB Audio Amplifier, -40 to 85 degC, 8-pin SOP (DGN8), Green (RoHS & no Sb/Br); Manufacturer: Texas Instruments; PartNumber: TPA6211A1DGN; Output Power(W): 2.45; PSRR(dB): -85; SubFamily: Dynamic Speaker; Supply Max(Max)(Volt): 5.5; Supply Min(Min)(Volt): 2.5; DatasheetVersion: SLOS367D; PackageVersion: 4073271/F, 05/2011; PackageReference: DGN8-1760X1425TP; PackageDescription: 8-Pin Plastic Small Outline, Body 3 x 3 mm, Pitch 0.65 mm; Supplier 1: Digi-Key; Supplier Part Number 1: 296-15325-5-ND; Supplier 2: Newark; Supplier Part Number 2: 82H5865; Supplier 3: Mouser; Supplier Part Number 3: 595-TPA6211A1DGN; Eco-Plan: Green (RoHS & no Sb/Br); Speaker Amp Type: Class-AB; Speaker Channels: Mono; Mounting Technology: Surface Mount; Code_JEDEC: MO-187; ComponentLink1Description: Manufacturer URL; ComponentLink1URL: http://www.ti.com/; ComponentLink2Description: Datasheet; ComponentLink2URL: http://www.ti.com/general/docs/lit/getliterature.tsp?genericPartNumber=TPA6211A1&fileType=pdf; ComponentLink3Description: Package Specification; ComponentLink3URL: http://www.ti.com/litv/pdf/mpds046e
footprint TI-DGN8-1760X1425TP_N (SOP, 8-Leads, Body 3.1x3.1mm, Pitch 0.65mm, Thermal Pad 1.89x1.57mm, IPC Medium Density)
footprint TI-DGN8-1760X1425TP_L (SOP, 8-Leads, Body 3.1x3.1mm, Pitch 0.65mm, Thermal Pad 1.89x1.57mm, IPC High Density)
footprint TI-DGN8-1760X1425TP_M (SOP, 8-Leads, Body 3.1x3.1mm, Pitch 0.65mm, Thermal Pad 1.89x1.57mm, IPC Low Density)
pins: 1 ~{SHUTDOWN} (in) "Shutdown terminal (active low logic)", 2 BYPASS "Mid-supply voltage. Adding a bypass capacitor improves PSRR.", 3 IN+ (in) "Positive differential input", 4 IN- (in) "Negative differential input", 5 VO+ (out) "Positive BTL output", 6 VDD (power) "Supply voltage terminal", 7 GND (power) "High-current ground", 8 VO- (out) "Negative BTL output", 9 EP (power) "Connect to ground. Thermal pad must be soldered down in all applications to properly secure device on the PCB."

## TPA6211A1DGNG4
designator U?
3.1-W Mono, Fully Differential, Class-AB Audio Amplifier, -40 to 85 degC, 8-pin SOP (DGN8), Green (RoHS & no Sb/Br); Manufacturer: Texas Instruments; PartNumber: TPA6211A1DGNG4; Output Power(W): 2.45; PSRR(dB): -85; SubFamily: Dynamic Speaker; Supply Max(Max)(Volt): 5.5; Supply Min(Min)(Volt): 2.5; DatasheetVersion: SLOS367D; PackageVersion: 4073271/F, 05/2011; PackageReference: DGN8-1760X1425TP; PackageDescription: 8-Pin Plastic Small Outline, Body 3 x 3 mm, Pitch 0.65 mm; Supplier 1: Digi-Key; Supplier Part Number 1: TPA6211A1DGNG4-ND; Supplier 2: Farnell; Supplier Part Number 2: 1207316; Supplier 3: Newark; Supplier Part Number 3: 14M7725; Supplier 4: Mouser; Supplier Part Number 4: 595-TPA6211A1DGNG4; Eco-Plan: Green (RoHS & no Sb/Br); Speaker Amp Type: Class-AB; Speaker Channels: Mono; Mounting Technology: Surface Mount; Code_JEDEC: MO-187; ComponentLink1Description: Manufacturer URL; ComponentLink1URL: http://www.ti.com/; ComponentLink2Description: Datasheet; ComponentLink2URL: http://www.ti.com/general/docs/lit/getliterature.tsp?genericPartNumber=TPA6211A1&fileType=pdf; ComponentLink3Description: Package Specification; ComponentLink3URL: http://www.ti.com/litv/pdf/mpds046e
footprint TI-DGN8-1760X1425TP_N (SOP, 8-Leads, Body 3.1x3.1mm, Pitch 0.65mm, Thermal Pad 1.89x1.57mm, IPC Medium Density)
footprint TI-DGN8-1760X1425TP_L (SOP, 8-Leads, Body 3.1x3.1mm, Pitch 0.65mm, Thermal Pad 1.89x1.57mm, IPC High Density)
footprint TI-DGN8-1760X1425TP_M (SOP, 8-Leads, Body 3.1x3.1mm, Pitch 0.65mm, Thermal Pad 1.89x1.57mm, IPC Low Density)
pins: 1 ~{SHUTDOWN} (in) "Shutdown terminal (active low logic)", 2 BYPASS "Mid-supply voltage. Adding a bypass capacitor improves PSRR.", 3 IN+ (in) "Positive differential input", 4 IN- (in) "Negative differential input", 5 VO+ (out) "Positive BTL output", 6 VDD (power) "Supply voltage terminal", 7 GND (power) "High-current ground", 8 VO- (out) "Negative BTL output", 9 EP (power) "Connect to ground. Thermal pad must be soldered down in all applications to properly secure device on the PCB."

## TPA6211A1DGNR
designator U?
3.1-W Mono, Fully Differential, Class-AB Audio Amplifier, -40 to 85 degC, 8-pin SOP (DGN8), Green (RoHS & no Sb/Br); Manufacturer: Texas Instruments; PartNumber: TPA6211A1DGNR; Output Power(W): 2.45; PSRR(dB): -85; SubFamily: Dynamic Speaker; Supply Max(Max)(Volt): 5.5; Supply Min(Min)(Volt): 2.5; DatasheetVersion: SLOS367D; PackageVersion: 4073271/F, 05/2011; PackageReference: DGN8-1760X1425TP; PackageDescription: 8-Pin Plastic Small Outline, Body 3 x 3 mm, Pitch 0.65 mm; Supplier 1: Digi-Key; Supplier Part Number 1: 296-26889-2-ND; Supplier 2: Digi-Key; Supplier Part Number 2: 296-26889-1-ND; Supplier 3: Digi-Key; Supplier Part Number 3: 296-26889-6-ND; Supplier 4: Newark; Supplier Part Number 4: 82H5866; Supplier 5: Mouser; Supplier Part Number 5: 595-TPA6211A1DGNR; Eco-Plan: Green (RoHS & no Sb/Br); Speaker Amp Type: Class-AB; Speaker Channels: Mono; Mounting Technology: Surface Mount; Code_JEDEC: MO-187; ComponentLink1Description: Manufacturer URL; ComponentLink1URL: http://www.ti.com/; ComponentLink2Description: Datasheet; ComponentLink2URL: http://www.ti.com/general/docs/lit/getliterature.tsp?genericPartNumber=TPA6211A1&fileType=pdf; ComponentLink3Description: Package Specification; ComponentLink3URL: http://www.ti.com/litv/pdf/mpds046e
footprint TI-DGN8-1760X1425TP_N (SOP, 8-Leads, Body 3.1x3.1mm, Pitch 0.65mm, Thermal Pad 1.89x1.57mm, IPC Medium Density)
footprint TI-DGN8-1760X1425TP_L (SOP, 8-Leads, Body 3.1x3.1mm, Pitch 0.65mm, Thermal Pad 1.89x1.57mm, IPC High Density)
footprint TI-DGN8-1760X1425TP_M (SOP, 8-Leads, Body 3.1x3.1mm, Pitch 0.65mm, Thermal Pad 1.89x1.57mm, IPC Low Density)
pins: 1 ~{SHUTDOWN} (in) "Shutdown terminal (active low logic)", 2 BYPASS "Mid-supply voltage. Adding a bypass capacitor improves PSRR.", 3 IN+ (in) "Positive differential input", 4 IN- (in) "Negative differential input", 5 VO+ (out) "Positive BTL output", 6 VDD (power) "Supply voltage terminal", 7 GND (power) "High-current ground", 8 VO- (out) "Negative BTL output", 9 EP (power) "Connect to ground. Thermal pad must be soldered down in all applications to properly secure device on the PCB."

## TPA6211A1DGNRG4
designator U?
3.1-W Mono, Fully Differential, Class-AB Audio Amplifier, -40 to 85 degC, 8-pin SOP (DGN8), Green (RoHS & no Sb/Br); Manufacturer: Texas Instruments; PartNumber: TPA6211A1DGNRG4; Output Power(W): 2.45; PSRR(dB): -85; SubFamily: Dynamic Speaker; Supply Max(Max)(Volt): 5.5; Supply Min(Min)(Volt): 2.5; DatasheetVersion: SLOS367D; PackageVersion: 4073271/F, 05/2011; PackageReference: DGN8-1760X1425TP; PackageDescription: 8-Pin Plastic Small Outline, Body 3 x 3 mm, Pitch 0.65 mm; Supplier 1: Digi-Key; Supplier Part Number 1: TPA6211A1DGNRG4-ND; Supplier 2: Newark; Supplier Part Number 2: 24K5792; Supplier 3: Mouser; Supplier Part Number 3: 595-TPA6211A1DGNRG4; Eco-Plan: Green (RoHS & no Sb/Br); Speaker Amp Type: Class-AB; Speaker Channels: Mono; Mounting Technology: Surface Mount; Code_JEDEC: MO-187; ComponentLink1Description: Manufacturer URL; ComponentLink1URL: http://www.ti.com/; ComponentLink2Description: Datasheet; ComponentLink2URL: http://www.ti.com/general/docs/lit/getliterature.tsp?genericPartNumber=TPA6211A1&fileType=pdf; ComponentLink3Description: Package Specification; ComponentLink3URL: http://www.ti.com/litv/pdf/mpds046e
footprint TI-DGN8-1760X1425TP_N (SOP, 8-Leads, Body 3.1x3.1mm, Pitch 0.65mm, Thermal Pad 1.89x1.57mm, IPC Medium Density)
footprint TI-DGN8-1760X1425TP_L (SOP, 8-Leads, Body 3.1x3.1mm, Pitch 0.65mm, Thermal Pad 1.89x1.57mm, IPC High Density)
footprint TI-DGN8-1760X1425TP_M (SOP, 8-Leads, Body 3.1x3.1mm, Pitch 0.65mm, Thermal Pad 1.89x1.57mm, IPC Low Density)
pins: 1 ~{SHUTDOWN} (in) "Shutdown terminal (active low logic)", 2 BYPASS "Mid-supply voltage. Adding a bypass capacitor improves PSRR.", 3 IN+ (in) "Positive differential input", 4 IN- (in) "Negative differential input", 5 VO+ (out) "Positive BTL output", 6 VDD (power) "Supply voltage terminal", 7 GND (power) "High-current ground", 8 VO- (out) "Negative BTL output", 9 EP (power) "Connect to ground. Thermal pad must be soldered down in all applications to properly secure device on the PCB."

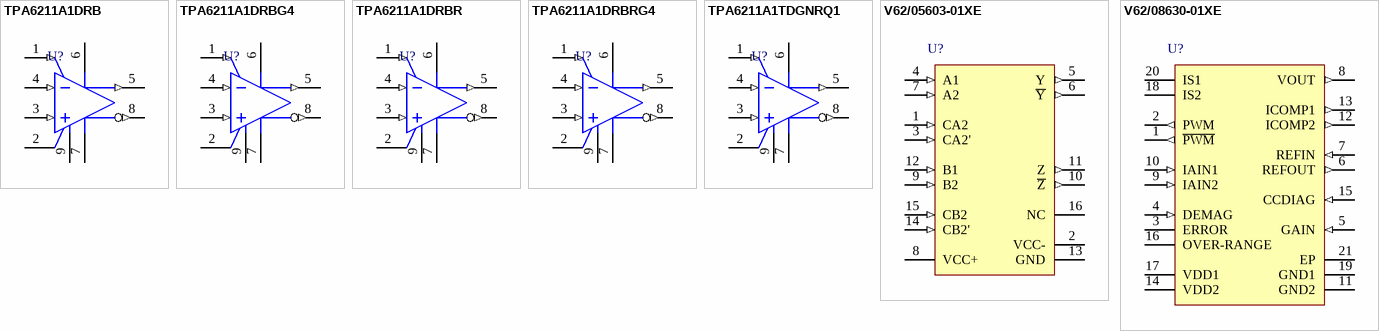
[diagram p39: symbols TPA6211A1DRB to V62/08630-01XE]

## TPA6211A1DRB
designator U?
3.1-W Mono, Fully Differential, Class-AB Audio Amplifier, -40 to 85 degC, 8-pin SON (DRB8), Green (RoHS & no Sb/Br); Manufacturer: Texas Instruments; PartNumber: TPA6211A1DRB; Output Power(W): 2.45; PSRR(dB): -85; SubFamily: Dynamic Speaker; Supply Max(Max)(Volt): 5.5; Supply Min(Min)(Volt): 2.5; DatasheetVersion: SLOS367D; PackageVersion: 4203482-2/K, 06/2012; PackageReference: DRB8-1750X1500TP; PackageDescription: 8-Pin Plastic Small Outline, Body 3 x 3 mm, Pitch 0.65 mm; Supplier 1: Digi-Key; Supplier Part Number 1: 296-15326-5-ND; Supplier 2: Farnell; Supplier Part Number 2: 8456640; Supplier 3: Newark; Supplier Part Number 3: 82H5867; Supplier 4: Mouser; Supplier Part Number 4: 595-TPA6211A1DRB; Eco-Plan: Green (RoHS & no Sb/Br); Speaker Amp Type: Class-AB; Speaker Channels: Mono; Mounting Technology: Surface Mount; ComponentLink1Description: Manufacturer URL; ComponentLink1URL: http://www.ti.com/; ComponentLink2Description: Datasheet; ComponentLink2URL: http://www.ti.com/general/docs/lit/getliterature.tsp?genericPartNumber=TPA6211A1&fileType=pdf; ComponentLink3Description: Package Specification; ComponentLink3URL: http://www.ti.com/litv/pdf/mpds118h
footprint TI-DRB8-1750X1500TP_V (SON, 8-Leads, Body 3x3mm, Pitch 0.65mm, Thermal Pad 1.50 x 3.8mm)
pins: 1 ~{SHUTDOWN} (in) "Shutdown terminal (active low logic)", 2 BYPASS "Mid-supply voltage. Adding a bypass capacitor improves PSRR.", 3 IN+ (in) "Positive differential input", 4 IN- (in) "Negative differential input", 5 VO+ (out) "Positive BTL output", 6 VDD (power) "Supply voltage terminal", 7 GND (power) "High-current ground", 8 VO- (out) "Negative BTL output", 9 EP (power) "Connect to ground. Thermal pad must be soldered down in all applications to properly secure device on the PCB."

## TPA6211A1DRBG4
designator U?
3.1-W Mono, Fully Differential, Class-AB Audio Amplifier, -40 to 85 degC, 8-pin SON (DRB8), Green (RoHS & no Sb/Br); Manufacturer: Texas Instruments; PartNumber: TPA6211A1DRBG4; Output Power(W): 2.45; PSRR(dB): -85; SubFamily: Dynamic Speaker; Supply Max(Max)(Volt): 5.5; Supply Min(Min)(Volt): 2.5; DatasheetVersion: SLOS367D; PackageVersion: 4203482-2/K, 06/2012; PackageReference: DRB8-1750X1500TP; PackageDescription: 8-Pin Plastic Small Outline, Body 3 x 3 mm, Pitch 0.65 mm; Supplier 1: Digi-Key; Supplier Part Number 1: TPA6211A1DRBG4-ND; Supplier 2: Mouser; Supplier Part Number 2: 595-TPA6211A1DRBG4; Eco-Plan: Green (RoHS & no Sb/Br); Speaker Amp Type: Class-AB; Speaker Channels: Mono; Mounting Technology: Surface Mount; ComponentLink1Description: Manufacturer URL; ComponentLink1URL: http://www.ti.com/; ComponentLink2Description: Datasheet; ComponentLink2URL: http://www.ti.com/general/docs/lit/getliterature.tsp?genericPartNumber=TPA6211A1&fileType=pdf; ComponentLink3Description: Package Specification; ComponentLink3URL: http://www.ti.com/litv/pdf/mpds118h
footprint TI-DRB8-1750X1500TP_V (SON, 8-Leads, Body 3x3mm, Pitch 0.65mm, Thermal Pad 1.50 x 3.8mm)
pins: 1 ~{SHUTDOWN} (in) "Shutdown terminal (active low logic)", 2 BYPASS "Mid-supply voltage. Adding a bypass capacitor improves PSRR.", 3 IN+ (in) "Positive differential input", 4 IN- (in) "Negative differential input", 5 VO+ (out) "Positive BTL output", 6 VDD (power) "Supply voltage terminal", 7 GND (power) "High-current ground", 8 VO- (out) "Negative BTL output", 9 EP (power) "Connect to ground. Thermal pad must be soldered down in all applications to properly secure device on the PCB."

## TPA6211A1DRBR
designator U?
3.1-W Mono, Fully Differential, Class-AB Audio Amplifier, -40 to 85 degC, 8-pin SON (DRB8), Green (RoHS & no Sb/Br); Manufacturer: Texas Instruments; PartNumber: TPA6211A1DRBR; Output Power(W): 2.45; PSRR(dB): -85; SubFamily: Dynamic Speaker; Supply Max(Max)(Volt): 5.5; Supply Min(Min)(Volt): 2.5; DatasheetVersion: SLOS367D; PackageVersion: 4203482-2/K, 06/2012; PackageReference: DRB8-1750X1500TP; PackageDescription: 8-Pin Plastic Small Outline, Body 3 x 3 mm, Pitch 0.65 mm; Supplier 1: Digi-Key; Supplier Part Number 1: 296-17101-2-ND; Supplier 2: Digi-Key; Supplier Part Number 2: 296-17101-1-ND; Supplier 3: Digi-Key; Supplier Part Number 3: 296-17101-6-ND; Supplier 4: Newark; Supplier Part Number 4: 82H5868; Supplier 5: Mouser; Supplier Part Number 5: 595-TPA6211A1DRBR; Eco-Plan: Green (RoHS & no Sb/Br); Speaker Amp Type: Class-AB; Speaker Channels: Mono; Mounting Technology: Surface Mount; ComponentLink1Description: Manufacturer URL; ComponentLink1URL: http://www.ti.com/; ComponentLink2Description: Datasheet; ComponentLink2URL: http://www.ti.com/general/docs/lit/getliterature.tsp?genericPartNumber=TPA6211A1&fileType=pdf; ComponentLink3Description: Package Specification; ComponentLink3URL: http://www.ti.com/litv/pdf/mpds118h
footprint TI-DRB8-1750X1500TP_V (SON, 8-Leads, Body 3x3mm, Pitch 0.65mm, Thermal Pad 1.50 x 3.8mm)
pins: 1 ~{SHUTDOWN} (in) "Shutdown terminal (active low logic)", 2 BYPASS "Mid-supply voltage. Adding a bypass capacitor improves PSRR.", 3 IN+ (in) "Positive differential input", 4 IN- (in) "Negative differential input", 5 VO+ (out) "Positive BTL output", 6 VDD (power) "Supply voltage terminal", 7 GND (power) "High-current ground", 8 VO- (out) "Negative BTL output", 9 EP (power) "Connect to ground. Thermal pad must be soldered down in all applications to properly secure device on the PCB."